# Altium footprint library SparkFun-Sensors.PCBLIB: 114 footprints (part 6 of 8)
Each footprint in its own frame and in the unit in brackets; x right, y up, seen from the top. Pads: shape width x height; smd on the part's side, far side on the other; paste and mask are expansions set on the pad; w line width, h text height; cw(c..) or ccw(c..) is an arc to the next point about the centre after c.
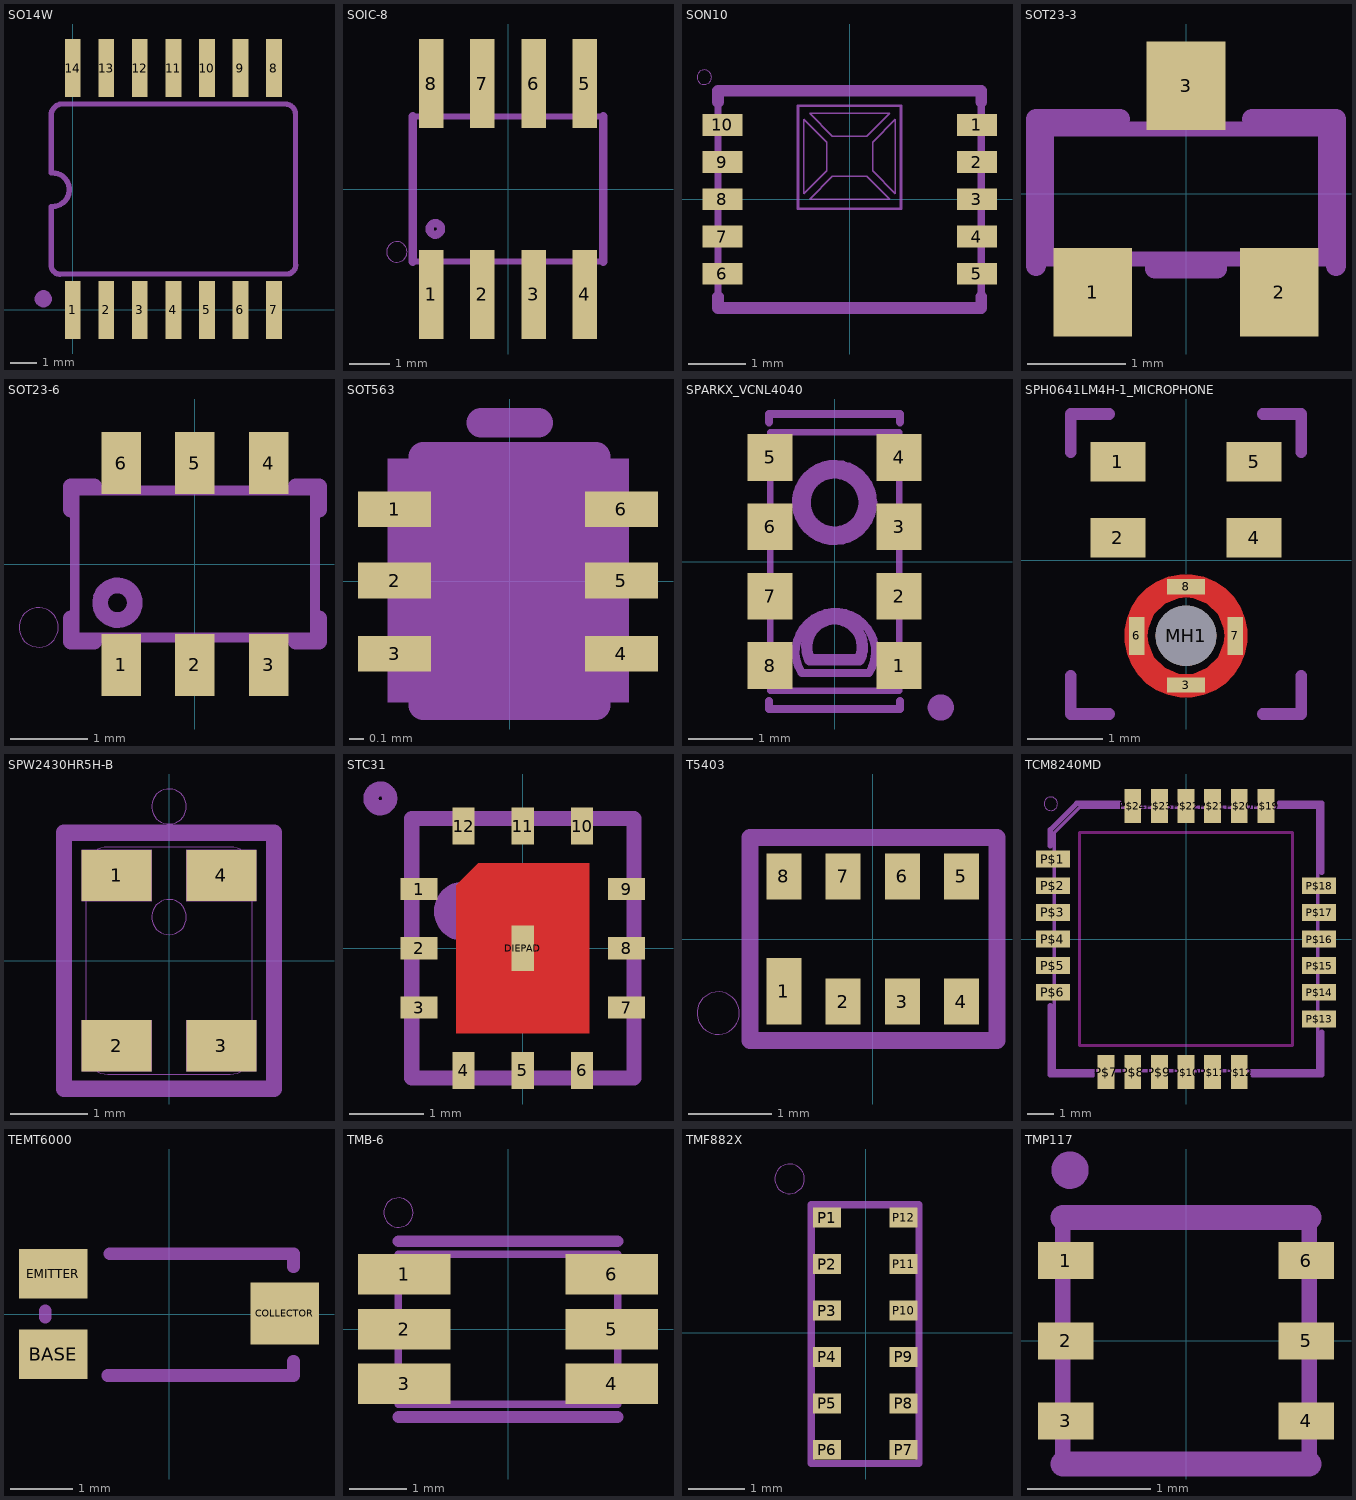
[diagram p5: the footprints below, top view; thin cyan lines are the x and y axes]

## SO14W [mm]
pads (14):
  rect 0.6x2.2 smd: 1(0,-0.006) 2(1.27,-0.006) 3(2.54,-0.006) 4(3.81,-0.006) 5(5.08,-0.006) 6(6.35,-0.006) 7(7.62,-0.006) 8(7.62,9.15) 9(6.35,9.15) 10(5.08,9.15) 11(3.81,9.15) 12(2.54,9.15) 13(1.27,9.15) 14(0,9.15)
tDocu:
  region: -0.254,-1.016 -0.254,1.016 0.254,1.016 0.254,-1.016
  region: 1.016,-1.016 1.016,1.016 1.524,1.016 1.524,-1.016
  region: 2.286,-1.016 2.286,1.016 2.794,1.016 2.794,-1.016
  region: 3.556,-1.016 3.556,1.016 4.064,1.016 4.064,-1.016
  region: 4.826,-1.016 4.826,1.016 5.334,1.016 5.334,-1.016
  region: 6.096,-1.016 6.096,1.016 6.604,1.016 6.604,-1.016
  region: 7.366,-1.016 7.366,1.016 7.874,1.016 7.874,-1.016
  region: 1.016,8.128 1.016,10.16 1.524,10.16 1.524,8.128
  region: 2.286,8.128 2.286,10.16 2.794,10.16 2.794,8.128
  region: 3.556,8.128 3.556,10.16 4.064,10.16 4.064,8.128
  region: 4.826,8.128 4.826,10.16 5.334,10.16 5.334,8.128
  region: 6.096,8.128 6.096,10.16 6.604,10.16 6.604,8.128
  region: 7.366,8.128 7.366,10.16 7.874,10.16 7.874,8.128
  region: -0.254,8.128 -0.254,10.16 0.254,10.16 0.254,8.128
tPlace:
  region: -0.794,0.413 -0.794,0.476 -0.842,0.593 -0.931,0.682 -1.048,0.73 -1.111,0.73 -1.174,0.73 -1.291,0.682 -1.38,0.593 -1.429,0.476 -1.429,0.413 -1.429,0.35 -1.38,0.233 -1.291,0.144 -1.174,0.095 -1.111,0.095 -1.048,0.095 -0.931,0.144 -0.842,0.233 -0.794,0.35 -0.794,0.413
  lines w0.203: -0.813,3.912 -0.813,1.637 ccw(c-0.482,1.686) -0.432,1.356 8.152,1.356 ccw(c8.102,1.687) 8.433,1.737 8.433,7.407 ccw(c8.052,7.408) 8.052,7.788 -0.432,7.788 ccw(c-0.382,7.357) -0.813,7.307 ; -0.813,5.182 -0.813,7.295 ; -0.762,3.912 ccw(c-0.762,4.547) -0.762,5.182

## SOIC-8 [mil]
pads (8):
  rect 24x87 smd: 1(-75,-103) 2(-25,-103) 3(25,-103) 4(75,-103) 5(75,103) 6(25,103) 7(-25,103) 8(-75,103)
tDocu:
  circle w8: c-71,-39 r5.65
  region: -82,-113 -82,-73 -68,-73 -68,-113
  region: -32,-113 -32,-73 -18,-73 -18,-113
  region: 18,-113 18,-73 32,-73 32,-113
  region: 68,-113 68,-73 82,-73 82,-113
  region: -82,73 -82,113 -68,113 -68,73
  region: -32,73 -32,113 -18,113 -18,73
  region: 18,73 18,113 32,113 32,73
  region: 68,73 68,113 82,113 82,73
  lines w6: -92.99,-70.98 92.99,-70.98 ; -92.99,70.98 92.99,70.98
tPlace:
  circle w0: c-108.5,-61.5 r10
  lines w8: -92.99,-70.98 -92.99,70.98 ; 92.99,-70.98 92.99,70.98

## SON10 [mm]
pads (10):
  rect 0.7x0.38 smd: 1(2.225,1.3) 2(2.225,0.65) 3(2.225,0) 4(2.225,-0.65) 5(2.225,-1.3) 6(-2.225,-1.3) 7(-2.225,-0.65) 8(-2.225,0) 9(-2.225,0.65) 10(-2.225,1.3)
tDocu:
  lines w0.025: -0.8,0.1 -0.4,0.5 -0.4,1 -0.8,1.4 -0.8,0.1 ; -0.7,0 0.7,0 0.3,0.4 -0.3,0.4 -0.7,0 ; -0.7,1.5 -0.3,1.1 0.3,1.1 0.7,1.5 -0.7,1.5 ; 0.4,0.5 0.4,1 0.8,1.4 0.8,0.1 0.4,0.5
  lines w0.051: -0.9,-0.165 0.9,-0.165 0.9,1.635 -0.9,1.635 -0.9,-0.165
  lines w0.127: -2.3,-1.9 -2.3,1.9 2.3,1.9 2.3,-1.9 -2.3,-1.9
tPlace:
  circle w0: c-2.54,2.134 r0.127
  lines w0.203: -2.3,-1.7 -2.3,-1.9 2.3,-1.9 2.3,-1.7 ; -2.3,1.7 -2.3,1.9 2.3,1.9 2.3,1.7
  text "3" at -0.1,0.1 h0.39
  text "1" at -0.1,1.2 h0.39
  text "2" at 0.506,0.6 h0.39
  text "4" at -0.63,0.6 h0.39

## SOT23-3 [mil]
pads (3):
  rect 31.5x35.43 smd: 1(-37.4,-39.37) 2(37.4,-39.37) 3(0,43.31)
tDocu:
  lines w6: -56,-26 56,-26 56,26 -56,26 -56,-26
tPlace:
  lines w8: -60.12,-28.94 -60.12,30.06 -26.5,30.06 ; -12.5,-30 12.5,-30 ; 26.5,30.06 60.12,30.06 60.12,-28.94

## SOT23-6 [mil]
pads (6):
  rect 20.08x31.5 smd: 1(-37.4,-51.18) 2(0,-51.18) 3(37.4,-51.18) 4(37.4,51.18) 5(0,51.18) 6(-37.4,51.18)
tDocu:
  circle w8: c-39.37,-19.69 r8.8
  lines w5: -61.02,-37.4 -61.02,37.4 61.02,37.4 61.02,-37.4 -61.02,-37.4
tPlace:
  circle w0: c-79.37,-32.19 r10
  lines w8: -62.99,-27.56 -62.99,-39.37 -51.18,-39.37 ; -62.99,27.56 -62.99,39.37 -51.18,39.37 ; 51.18,-39.37 62.99,-39.37 62.99,-27.56 ; 51.18,39.37 62.99,39.37 62.99,27.56

## SOT563 [mil]
pads (6):
  rect 20x9.8 smd: 1(-31.5,19.61) 2(-31.5,0.13) 3(-31.5,-19.92) 4(30.57,-19.92) 5(30.57,0.13) 6(30.57,19.61)
tPlace:
  lines w8: -23.62,-34 23.62,-34 ; -23.62,34 23.62,34 ; -7.87,43.31 7.87,43.31
Reference:
  lines w0: -33.02,5.46 31.98,5.46
Mech64:
  drawing of 504 lines, arcs and shapes, not listed
Mech65:
  drawing of 760 lines, arcs and shapes, not listed

## SPARKX_VCNL4040 [mm]
pads (8):
  rect 0.7x0.725 smd: 1(1,-1.612) 2(1,-0.537) 3(1,0.537) 4(1,1.612) 5(-1,1.612) 6(-1,0.537) 7(-1,-0.537) 8(-1,-1.612)
tDocu:
  circle w0.127: c0,0.914 r0.598
  lines w0.1: -1,-2 1,-2 1,2 -1,2 -1,-2
  lines w0.127: 0.508,-1.727 -0.508,-1.727 cw(c0.013,-1.397) 0.533,-1.727
tPlace:
  circle w0.203: c1.646,-2.261 r0.102
  circle w0.178: c0,0.914 r0.458
  lines w0.127: -1.016,-2.159 -1.016,-2.286 1.016,-2.286 1.016,-2.159 ; -1.016,2.159 -1.016,2.286 1.016,2.286 1.016,2.159
  lines w0.178: -0.381,-1.524 0.381,-1.524 ccw(c0,-1.321) -0.381,-1.524

## SPH0641LM4H-1_MICROPHONE [mm]
pads (9):
  rect 0.725x0.522 smd: 1(-0.9,1.3) 2(-0.9,0.3) 4(0.9,0.3) 5(0.9,1.3)
  rect 0.5x0.2 smd: 3(0,-1.65) 8(0,-0.35)
  rect 0.2x0.5 smd: 6(-0.65,-1) 7(0.65,-1)
  round 0.8 hole 0.8 unplated: MH1(0,-1)
Top:
  region: -0.51,-1 -0.5,-0.9 -0.424,-0.717 -0.283,-0.576 -0.1,-0.5 0,-0.49 0,-0.19 -0.08,-0.19 -0.236,-0.221 -0.384,-0.282 -0.516,-0.371 -0.629,-0.484 -0.718,-0.616 -0.779,-0.764 -0.81,-0.92 -0.81,-1
  region: 0,-1.51 -0.1,-1.5 -0.283,-1.424 -0.424,-1.283 -0.5,-1.099 -0.51,-1 -0.81,-1 -0.81,-1.08 -0.779,-1.236 -0.718,-1.384 -0.629,-1.516 -0.516,-1.629 -0.384,-1.718 -0.236,-1.779 -0.08,-1.81 0,-1.81
  region: 0.51,-1 0.5,-1.099 0.424,-1.283 0.283,-1.424 0.1,-1.5 0,-1.51 0,-1.81 0.08,-1.81 0.236,-1.779 0.384,-1.718 0.516,-1.629 0.629,-1.516 0.718,-1.384 0.779,-1.236 0.81,-1.08 0.81,-1
  region: 0,-0.49 0.1,-0.5 0.283,-0.576 0.424,-0.717 0.5,-0.9 0.51,-1 0.81,-1 0.81,-0.92 0.779,-0.764 0.718,-0.616 0.629,-0.484 0.516,-0.371 0.384,-0.282 0.236,-0.221 0.08,-0.19 0,-0.19
Top Paste:
  region: -0.44,-1.652 -0.343,-1.72 -0.118,-1.791 0.118,-1.791 0.343,-1.72 0.44,-1.652 0.3,-1.445 0.231,-1.486 0.08,-1.533 -0.08,-1.533 -0.231,-1.486 -0.3,-1.445
  region: -0.44,-1.652 -0.343,-1.72 -0.118,-1.791 0.118,-1.791 0.343,-1.72 0.44,-1.652 0.3,-1.445 0.231,-1.486 0.08,-1.533 -0.08,-1.533 -0.231,-1.486 -0.3,-1.445
  region: -0.44,-1.652 -0.343,-1.72 -0.118,-1.791 0.118,-1.791 0.343,-1.72 0.44,-1.652 0.3,-1.445 0.231,-1.486 0.08,-1.533 -0.08,-1.533 -0.231,-1.486 -0.3,-1.445
  region: -0.44,-1.652 -0.343,-1.72 -0.118,-1.791 0.118,-1.791 0.343,-1.72 0.44,-1.652 0.3,-1.445 0.231,-1.486 0.08,-1.533 -0.08,-1.533 -0.231,-1.486 -0.3,-1.445
  region: -0.44,-1.652 -0.343,-1.72 -0.118,-1.791 0.118,-1.791 0.343,-1.72 0.44,-1.652 0.3,-1.445 0.231,-1.486 0.08,-1.533 -0.08,-1.533 -0.231,-1.486 -0.3,-1.445
  region: -0.44,-1.652 -0.343,-1.72 -0.118,-1.791 0.118,-1.791 0.343,-1.72 0.44,-1.652 0.3,-1.445 0.231,-1.486 0.08,-1.533 -0.08,-1.533 -0.231,-1.486 -0.3,-1.445
  region: -0.44,-1.652 -0.343,-1.72 -0.118,-1.791 0.118,-1.791 0.343,-1.72 0.44,-1.652 0.3,-1.445 0.231,-1.486 0.08,-1.533 -0.08,-1.533 -0.231,-1.486 -0.3,-1.445
  region: 0.652,-1.44 0.72,-1.343 0.791,-1.118 0.791,-0.882 0.72,-0.657 0.652,-0.56 0.445,-0.7 0.486,-0.769 0.534,-0.92 0.534,-1.08 0.486,-1.231 0.445,-1.3
  region: -0.652,-0.56 -0.72,-0.657 -0.791,-0.882 -0.791,-1.118 -0.72,-1.343 -0.652,-1.44 -0.445,-1.3 -0.486,-1.231 -0.534,-1.08 -0.534,-0.92 -0.486,-0.769 -0.445,-0.7
  region: 0.44,-0.348 0.343,-0.28 0.118,-0.209 -0.118,-0.209 -0.343,-0.28 -0.44,-0.348 -0.3,-0.555 -0.231,-0.514 -0.08,-0.466 0.08,-0.466 0.231,-0.514 0.3,-0.555
Top Solder:
  circle w0.6: c0,-1 r0.662
tPlace:
  lines w0.152: -1.524,-1.524 -1.524,-2.032 -1.016,-2.032 ; -1.524,1.424 -1.524,1.932 -1.016,1.932 ; 1.016,-2.032 1.524,-2.032 1.524,-1.524 ; 1.016,1.932 1.524,1.932 1.524,1.424

## SPW2430HR5H-B [mm]
pads (4):
  rect 0.9x0.66 smd: 1(-0.675,1.095) 2(-0.675,-1.095) 3(0.675,-1.095) 4(0.675,1.095)
tDocu:
  region: -1.125,0.765 -1.125,1.425 -0.225,1.425 -0.225,0.765
  region: 1.125,-0.765 1.125,-1.425 0.225,-1.425 0.225,-0.765
  region: 1.125,1.425 1.125,0.765 0.225,0.765 0.225,1.425
  region: -1.125,-1.425 -1.125,-0.765 -0.225,-0.765 -0.225,-1.425
  lines w0.003: -1.25,-1.55 -1.25,1.55 1.25,1.55 1.25,-1.55 -1.25,-1.55 ; -1.07,-1.18 -1.07,1.18 cw(c-0.79,1.18) -0.79,1.46 0.79,1.46 cw(c0.79,1.18) 1.07,1.18 1.07,-1.18 cw(c0.79,-1.18) 0.79,-1.46 -0.79,-1.46 cw(c-0.79,-1.18) -1.07,-1.18
tPlace:
  circle w0: c0,0.56 r0.225
  circle w0: c0,1.982 r0.225
  lines w0.203: -1.352,-1.652 -1.352,1.652 1.352,1.652 1.352,-1.652 -1.352,-1.652

## STC31 [mil]
pads (13):
  rect 19.69x11.81 smd paste+0: 1(-55.12,31.5) 2(-55.12,0) 3(-55.12,-31.5) 7(55.12,-31.5) 8(55.12,0) 9(55.12,31.5)
  rect 11.81x19.69 smd paste+0: 4(-31.5,-64.96) 5(0,-64.96) 6(31.5,-64.96) 10(31.5,64.96) 11(0,64.96) 12(-31.5,64.96)
  rect 12x24 smd paste+0 mask+0: DIEPAD(0,0)
Top:
  region: -35.43,-45.28 35.43,-45.28 35.43,45.28 -23.62,45.28 -35.43,33.46
Top Paste:
  region: -64.96,25.59 -64.96,37.4 -49.21,37.4 -49.21,25.59
  region: -64.96,-5.91 -64.96,5.91 -49.21,5.91 -49.21,-5.91
  region: -64.96,-37.4 -64.96,-25.59 -49.21,-25.59 -49.21,-37.4
  region: 49.21,25.59 49.21,37.4 64.96,37.4 64.96,25.59
  region: 49.21,-5.91 49.21,5.91 64.96,5.91 64.96,-5.91
  region: 49.21,-37.4 49.21,-25.59 64.96,-25.59 64.96,-37.4
  region: -13.78,-17.72 -13.78,17.72 13.78,17.72 13.78,-17.72
  region: -5.91,-74.8 -5.91,-59.06 5.91,-59.06 5.91,-74.8
  region: -37.4,-74.8 -37.4,-59.06 -25.59,-59.06 -25.59,-74.8
  region: 25.59,-74.8 25.59,-59.06 37.4,-59.06 37.4,-74.8
  region: -5.91,59.06 -5.91,74.8 5.91,74.8 5.91,59.06
  region: -37.4,59.06 -37.4,74.8 -25.59,74.8 -25.59,59.06
  region: 25.59,59.06 25.59,74.8 37.4,74.8 37.4,59.06
Top Solder:
  region: -39.37,-49.21 39.37,-49.21 39.37,49.21 -25.59,49.21 -39.37,35.43
tDocu:
  circle w15.75: c-31.5,19.69 r7.87
  lines w8: -59.06,-68.9 59.06,-68.9 59.06,68.9 -59.06,68.9 -59.06,-68.9
tPlace:
  circle w8: c-75.75,79.69 r5
  lines w8: -59.06,-68.9 -59.06,-49.21 ; -59.06,49.21 -59.06,68.9 ; 59.06,-68.9 59.06,-49.21 ; 59.06,49.21 59.06,68.9

## T5403 [mil]
pads (8):
  rect 16.54x31.5 smd: 1(-41.93,-24.61)
  rect 16.54x21.65 smd: 2(-13.98,-29.53) 3(13.98,-29.53) 4(41.93,-29.53) 5(41.93,29.53) 6(13.98,29.53) 7(-13.98,29.53) 8(-41.93,29.53)
tPlace:
  circle w0: c-73,-35 r10
  lines w8: -58,-48 -58,48 58.72,48 58.72,-48 -58,-48

## TCM8240MD [mm]
pads (24):
  rect 1.27x0.635 smd: P$1(-5,3) P$2(-5,2) P$3(-5,1) P$4(-5,0) P$5(-5,-1) P$6(-5,-2) P$13(5,-3) P$14(5,-2) P$15(5,-1) P$16(5,0) P$17(5,1) P$18(5,2)
  rect 0.635x1.27 smd: P$7(-3,-5) P$8(-2,-5) P$9(-1,-5) P$10(0,-5) P$11(1,-5) P$12(2,-5) P$19(3,5) P$20(2,5) P$21(1,5) P$22(0,5) P$23(-1,5) P$24(-2,5)
Top keep-out:
  lines w0.127: -4,-4 4,-4 ; -4,-4 -4,4 ; -4,-4 4,-4 ; -4,-4 -4,4 ; -4,4 4,4 ; -4,4 4,4 ; 4,-4 4,4 ; 4,-4 4,4
tDocu:
  lines w0.127: -4.95,-4.95 4.95,-4.95 4.95,4.95 -4,4.95 -4.95,4 -4.95,-4.95
tPlace:
  circle w0: c-5.08,5.08 r0.254
  lines w0.203: -5.1,-2.5 -5.1,-5.1 -3.5,-5.1 ; -5.1,3.5 -5.1,4.1 -4.1,5.1 -2.5,5.1 ; 2.5,-5.1 5.1,-5.1 5.1,-3.5 ; 3.5,5.1 5.1,5.1 5.1,2.5

## TEMT6000 [mm]
pads (3):
  rect 1.1x0.8 smd: BASE(-1.87,-0.65) EMITTER(-1.87,0.65)
  rect 1.1x1 smd: COLLECTOR(1.86,0.01)
tPlace:
  lines w0.203: -2,-0.05 -2,0.05 ; -0.99,-0.99 2,-0.99 2,-0.76 ; -0.96,0.97 2,0.97 2,0.76

## TMB-6 [mm]
pads (6):
  rect 1.6x0.7 smd: 1(-1.8,0.95) 2(-1.8,0) 3(-1.8,-0.95) 4(1.8,-0.95) 5(1.8,0) 6(1.8,0.95)
tDocu:
  lines w0.127: -1.9,-1.3 -1.9,1.3 1.9,1.3 1.9,-1.3 -1.9,-1.3
tPlace:
  circle w0: c-1.9,2.021 r0.254
  lines w0.203: -1.9,-1.524 1.9,-1.524 ; -1.9,1.524 1.9,1.524

## TMF882X [mm]
pads (12):
  rect 0.5x0.35 smd: P1(-0.686,2.032) P2(-0.686,1.212) P3(-0.686,0.392) P4(-0.686,-0.428) P5(-0.686,-1.248) P6(-0.686,-2.068) P7(0.664,-2.068) P8(0.664,-1.248) P9(0.664,-0.428) P10(0.664,0.392) P11(0.664,1.212) P12(0.664,2.032)
tDocu:
  lines w0.127: -0.965,-2.311 0.94,-2.311 0.94,2.261 -0.965,2.261 -0.965,-2.311
tPlace:
  circle w0: c-1.346,2.718 r0.262

## TMP117 [mm]
pads (6):
  rect 0.45x0.3 smd: 1(-0.975,0.65) 2(-0.975,0) 3(-0.975,-0.65) 4(0.975,-0.65) 5(0.975,0) 6(0.975,0.65)
tDocu:
  lines w0.127: -1,-1 -1,1 1,1 1,-1 -1,-1
tPlace:
  circle w0.203: c-0.942,1.385 r0.05
  lines w0.203: -1,-1 1,-1 ; -1,1 1,1